# EAGLE library part ADCMP606 (library yapo)
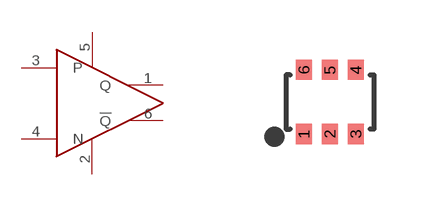
[diagram p37: symbol with the pads of SC70-6; footprint SC70-6]

Designator prefix IC

## ADCMP606  [SC70-6]
1  Q
2  VEE
3  P
4  N
5  VCC
6  !Q!

## Footprint SC70-6 (pad centres in mm)
smd 0.4 x 0.5: 1 -0.65,-0.8; 2 0,-0.8; 3 0.65,-0.8; 4 0.65,0.8; 5 0,0.8; 6 -0.65,0.8